# EAGLE library part SOIC_8_UNI (library custom)
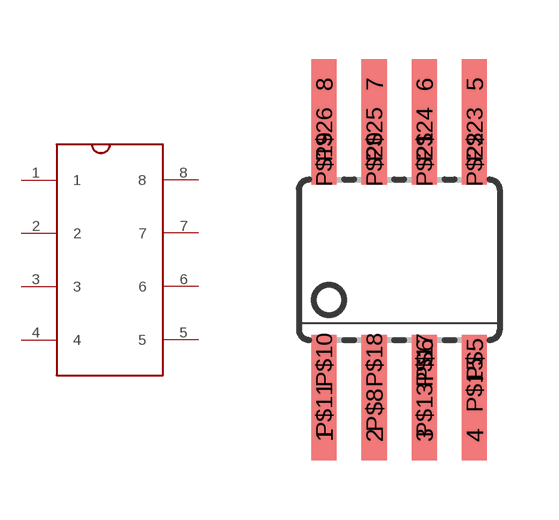
[diagram p0: symbol with the pads of SOIC_8_UNI; footprint SOIC_8_UNI]

Designator prefix -

## SOIC_8_UNI  [SOIC_8_UNI]
1  1
2  2
3  3
4  4
5  5
6  6
7  7
8  8

## Footprint SOIC_8_UNI (pad centres in mm)
Small Outline Package
smd 0.635 x 1.27: 1 -1.905,-4.445; 2 -0.635,-4.445; 3 0.635,-4.445; 4 1.905,-4.445; 5 1.905,4.445; 6 0.635,4.445; 7 -0.635,4.445; 8 -1.905,4.445; P$5 1.905,-2.54; P$6 0.635,-2.54; P$8 -0.635,-3.81; P$10 -1.905,-2.54; P$11 -1.905,-3.81; P$13 0.635,-3.81; P$15 1.905,-3.175; P$17 0.635,-2.54; P$18 -0.635,-2.54; P$19 -1.905,2.54; P$20 -0.635,2.54; P$21 0.635,2.54; P$22 1.905,2.54; P$23 1.905,3.175; P$24 0.635,3.175; P$25 -0.635,3.175; P$26 -1.905,3.175